# Altium schematic symbol library Actives_Lib.SchLib: 5 symbols
Pins are listed as number, name and electrical type; pins without a type are passive.

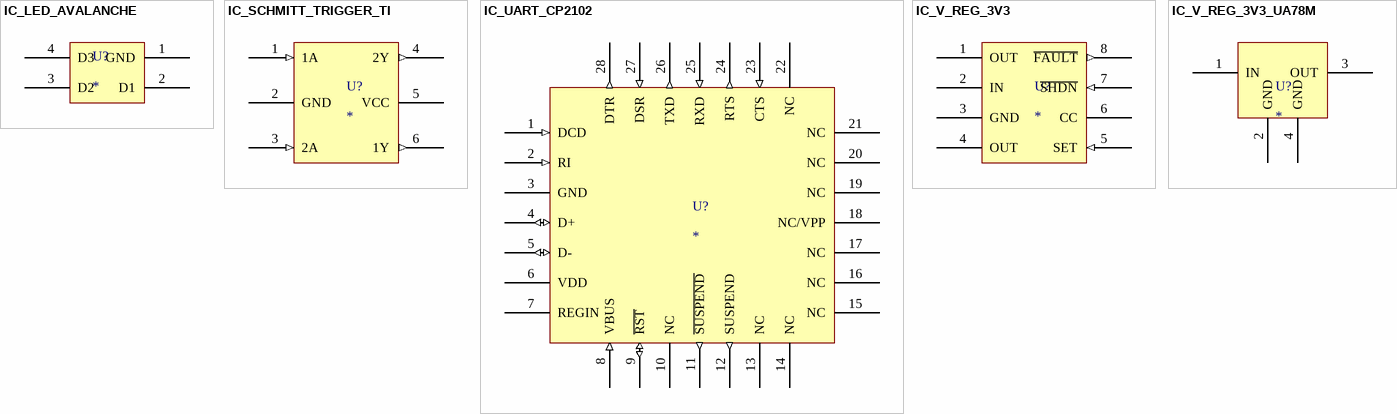
[diagram p0: symbols IC_LED_AVALANCHE to IC_V_REG_3V3_UA78M]

## IC_LED_AVALANCHE
designator U?
3 led; ComponentLink1Description: Datasheet; ComponentLink1URL: https://www.jameco.com/jameco/products/prodds/1762437.pdf
footprint SOT190P237X122-4N (SOT143, 4-Leads, Body 2,92x2,37mm, Pitch 1,90mm, IPC Medium Density)
pins: 1 GND, 2 D1, 3 D2, 4 D3

## IC_SCHMITT_TRIGGER_TI
designator U?
ComponentLink1Description: Datasheet; ComponentLink1URL: http://www.ti.com/lit/ds/symlink/sn74lvc2g17.pdf
footprint SOT-23-6 (R-PDSO-G6)
pins: 1 1A (in), 2 GND (power), 3 2A (in), 4 2Y (out), 5 VCC (power), 6 1Y (out)

## IC_UART_CP2102
designator U?
ComponentLink1Description: Datasheet; ComponentLink1URL: http://www.farnell.com/datasheets/2167291.pdf?_ga=2.150283062.1600700534.1543772172-1634591026.1539693504&_gac=1.218608875.1540491235.Cj0KCQjw08XeBRC0ARIsAP_gaQAWPNpruonGef4BjEq1gHyIMFdlvFf9iwjxFbUIS2LgSv6qMoDTaX4aAgW9EALw_wcB
footprint QFN-28
pins: 1 DCD (in), 2 RI (in), 3 GND, 4 D+ (io), 5 D- (io), 6 VDD (power), 7 REGIN (power), 8 VBUS (in), 9 ~{RST} (io), 10 NC, 11 ~{SUSPEND} (out), 12 SUSPEND (out), 13 NC, 14 NC, 15 NC, 16 NC, 17 NC, 18 NC/VPP, 19 NC, 20 NC, 21 NC, 22 NC, 23 CTS (in), 24 RTS (out), 25 RXD (in), 26 TXD (out), 27 DSR (in), 28 DTR (out)

## IC_V_REG_3V3
designator U?
Linear, 8 pin; ComponentLink1Description: Datasheet; ComponentLink1URL: http://www.ti.com/lit/ds/symlink/lp3982.pdf
footprint S-PDSO-G8_GENERIC
pins: 1 OUT (power), 2 IN (power), 3 GND (power), 4 OUT (power), 5 SET (in), 6 CC, 7 ~{SHDN} (in), 8 ~{FAULT} (out)

## IC_V_REG_3V3_UA78M
designator U?
Fixed voltage, max 500mA, 3pin / Run a thick ground trace beneath the IC over pin 2 and 4 to reduce powerloss.; ComponentLink1Description: Datasheet; ComponentLink1URL: http://www.ti.com/lit/ds/symlink/ua78m.pdf
footprint SOT230P700X180-4N (SOT223, 4-Leads, Body 6,50x7,00mm (avg), Pitch 2,30mm, IPC Medium Density)
pins: 1 IN (power), 2 GND (power), 3 OUT (power), 4 GND